# Altium schematic symbol library WatchDog v1.0.SCHLIB: 21 symbols
Pins are listed as number, name and electrical type; pins without a type are passive.

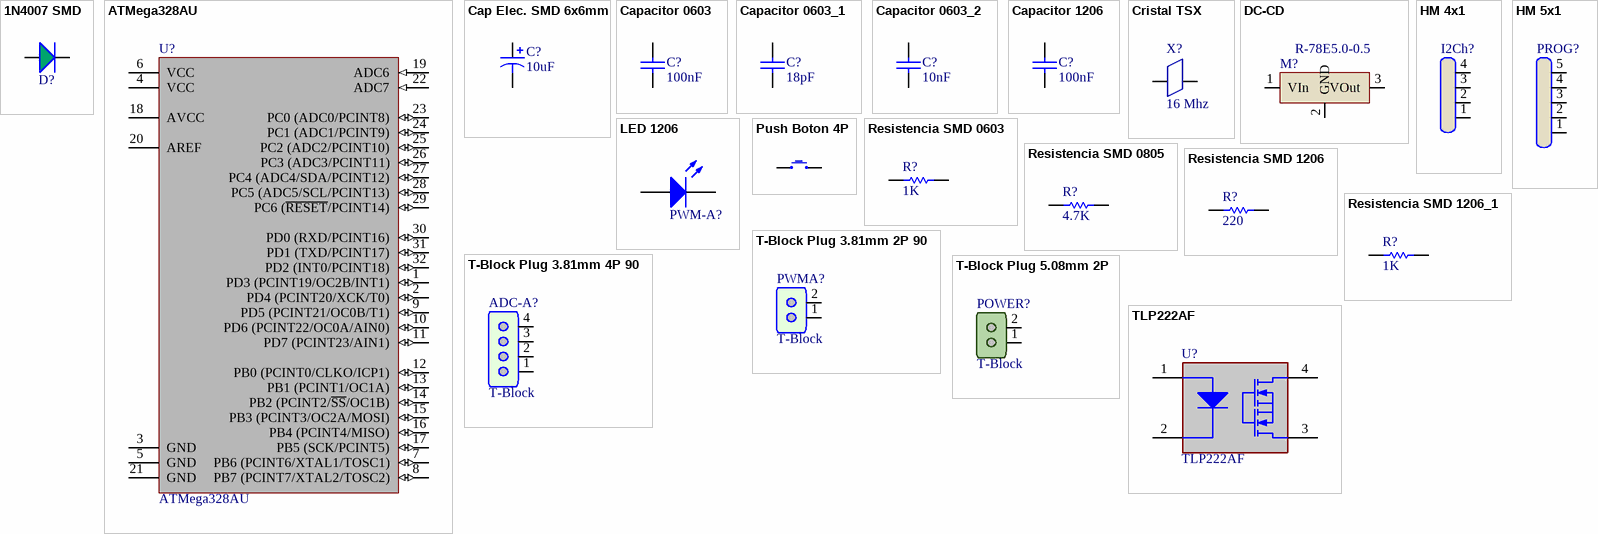
[diagram p0: symbols 1N4007 SMD to TLP222AF]

## 1N4007 SMD
designator D?, comment 1N4007  (value not drawn)
Diodo Rectificador
footprint 1N4007 SMD
pins: 1 A, 2 C

## ATMega328AU
designator U?
MCU  Atmel 8 Bit TQFP
footprint ATMega328AU (TQFP 32)
pins: 1 PD3 (PCINT19/OC2B/INT1) (io), 2 PD4 (PCINT20/XCK/T0) (io), 3 GND (power), 4 VCC (power), 5 GND (power), 6 VCC (power), 7 PB6 (PCINT6/XTAL1/TOSC1) (io), 8 PB7 (PCINT7/XTAL2/TOSC2) (io), 9 PD5 (PCINT21/OC0B/T1) (io), 10 PD6 (PCINT22/OC0A/AIN0) (io), 11 PD7 (PCINT23/AIN1) (io), 12 PB0 (PCINT0/CLKO/ICP1) (io), 13 PB1 (PCINT1/OC1A) (io), 14 PB2 (PCINT2/~{SS}/OC1B) (io), 15 PB3 (PCINT3/OC2A/MOSI) (io), 16 PB4 (PCINT4/MISO) (io), 17 PB5 (SCK/PCINT5) (io), 18 AVCC (power), 19 ADC6 (in), 20 AREF, 21 GND (power), 22 ADC7 (in), 23 PC0 (ADC0/PCINT8) (io), 24 PC1 (ADC1/PCINT9) (io), 25 PC2 (ADC2/PCINT10) (io), 26 PC3 (ADC3/PCINT11) (io), 27 PC4 (ADC4/SDA/PCINT12) (io), 28 PC5 (ADC5/SCL/PCINT13) (io), 29 PC6 (~{RESET}/PCINT14) (io), 30 PD0 (RXD/PCINT16) (io), 31 PD1 (TXD/PCINT17) (io), 32 PD2 (INT0/PCINT18) (io)

## Cap Elec. SMD 6x6mm
designator C?, comment 10uF
6.3X6.3 Electrolitico Capacitor SMD
footprint Capacitor SMD 6.3X6.3 (Capacitor Electrolitico SMD 6.3X6.3mm)
pins: 1, 2

## Capacitor 0603
designator C?, comment 100nF
Capacitor Ceramico SMD 0603
footprint Capacitor 0603 (Chip Capacitor 0603 SMD)
pins: 1, 2

## Capacitor 0603_1
designator C?, comment 18pF
Capacitor Ceramico SMD 0603
footprint Capacitor 0603 (Chip Capacitor 0603 SMD)
pins: 1, 2

## Capacitor 0603_2
designator C?, comment 10nF
Capacitor Ceramico SMD 0603
footprint Capacitor 0603 (Chip Capacitor 0603 SMD)
pins: 1, 2

## Capacitor 1206
designator C?, comment 100nF
Capacitor cerámico 1206 SMD
footprint Capacitor 1206 (Capacitor Ceramico 1206)
pins: 1, 2

## Cristal TSX
designator X?, comment 16 Mhz
Cristal SMD 3.2 x 2.5mm
footprint Cristal SMD TSX (TSX3225)
pins: 1, 3

## DC-CD
designator M?, comment R-78E5.0-0.5
DC DC CONVERTER 5V 3W; ComponentLink1Description: Datasheet; ComponentLink1URL: https://recom-power.com/pdf/Innoline/R-78E-0.5.pdf
footprint W-173010578 (Convertidor DC-DC)
pins: 1 VIn, 2 GND, 3 VOut

## HM 4x1
designator I2Ch?
Header Macho 4x1 2.54mm
footprint HM 4X1 (Header Macho 4x1 2.54mm)
pins: 1, 2, 3, 4

## HM 5x1
designator PROG?
Header Macho 5x1 2.54mm
footprint HM 5X1 (Header Macho 5x1 2.54mm)
pins: 1, 2, 3, 4, 5

## LED 1206
designator PWM-A?  (value not drawn)
LED SMD 1206
footprint LED 1206 G (Led SMD 1206)
footprint LED 1206 R
footprint LED 1206 Y
pins: 1 A, 2 K

## Push Boton 4P
designator RESET?, comment PUSH BOTON  (value not drawn)
6x6mm Push
footprint PUSH BOTON (PUSH BOTON 4P TH)
pins: 1 27, 2 28

## Resistencia SMD 0603
designator R?, comment 1K
Resistencia SMD 0603
footprint RESISTENCIA 0603 SMD (Chip Resistor, 2-Leads, Body 1.63x0.85mm, IPC Medium Density)
footprint RESISTENCIA 0603 (Chip Resistor, 2-Leads, Body 1.63x0.85mm, IPC Medium Density)
pins: 1 A, 2 B

## Resistencia SMD 0805
designator R?, comment 4.7K
Resistencia SMD 0805
footprint Resistencia 0805 (RESISTENCIA SMD 0805)
pins: 1 A, 2 B

## Resistencia SMD 1206
designator R?, comment 220
Resistencia SMD 1206
footprint Resistencia 1206 (Resistencia 1206 SMD)
pins: 1 A, 2 B

## Resistencia SMD 1206_1
designator R?, comment 1K
Resistencia SMD 1206
footprint Resistencia 1206 (Resistencia 1206 SMD)
pins: 1 A, 2 B

## T-Block Plug 3.81mm 2P 90
designator PWMA?, comment T-Block
Terminal de Bloque 2P 3.81mm Desmontable 90 Grados
footprint T-BLOCK 2P 3.81MM Ang (TERMINAL BLOCK 3.81MM 2P)
pins: 1, 2

## T-Block Plug 3.81mm 4P 90
designator ADC-A?, comment T-Block
Terminal de Bloque 4P 3.81mm Desmontable 90 Grados
footprint T-BLOCK 4P 3.81MM Ang (TERMINAL BLOCK 3.81MM 4P)
pins: 1, 2, 3, 4

## T-Block Plug 5.08mm 2P
designator POWER?, comment T-Block
Terminal de Bloque Pluggeable 2P 5.08mm
footprint T-BLOCK 2P 5.08MM PLUG (Terminal de Bloque 2P 5.08mm 90)
pins: 1, 2

## TLP222AF
designator U?
Photo Relay Coupler
footprint PC817 (OPTOACOPLADOR)
pins: 1, 2, 3, 4